# Altium footprint library TO-220-5.PcbLib: 1 footprints
Each footprint in its own frame and in the unit in brackets; x right, y up, seen from the top. Pads: shape width x height; smd on the part's side, far side on the other; paste and mask are expansions set on the pad; w line width, h text height; cw(c..) or ccw(c..) is an arc to the next point about the centre after c.
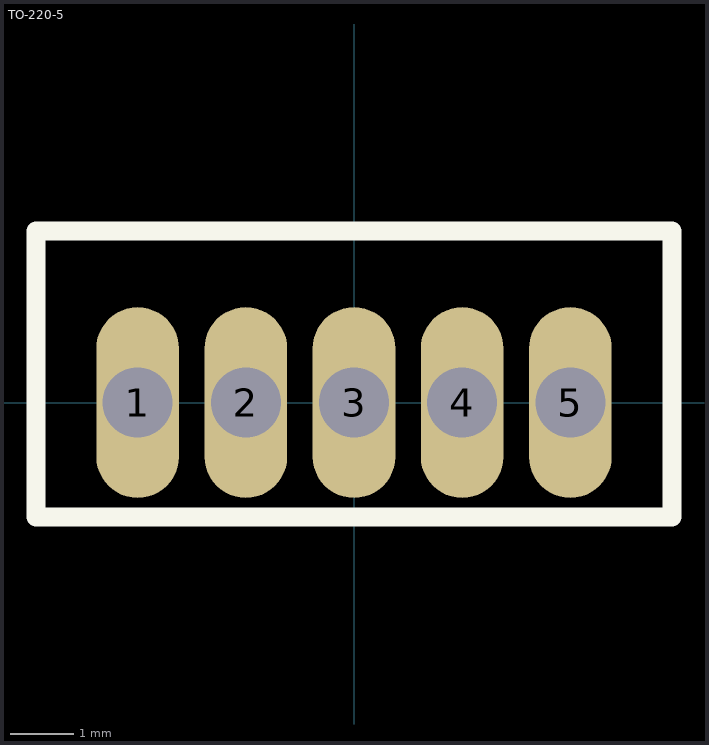
[diagram p0: the footprint, top view; thin cyan lines are the x and y axes]

## TO-220-5 [mm]
pads (5):
  oval 1.3x3 hole 1.1: 1(-3.4,0) 2(-1.7,0) 3(0,0) 4(1.7,0) 5(3.4,0)
Top Overlay:
  lines w0.3: -5,-1.8 -5,2.7 -1.5,2.7 5,2.7 5,-1.8 -5,-1.8
3D body: height 18.06, standoff -1.14, extent -5.08,-1.758 5.082,2.763